# Altium schematic symbol library Dispaly.SchLib: 4 symbols
Pins are listed as number, name and electrical type; pins without a type are passive.

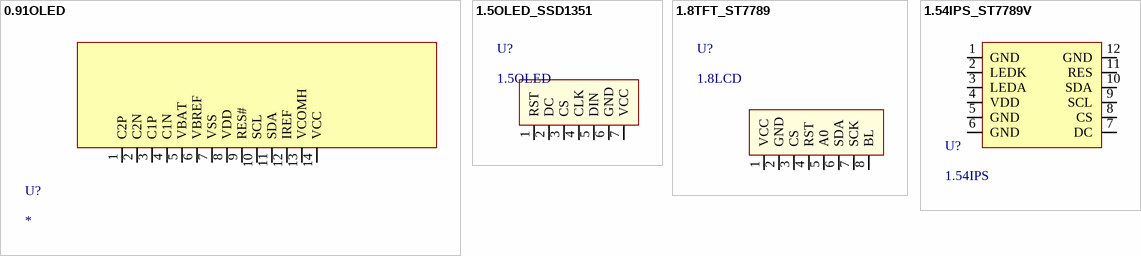
[diagram p0: symbols 0.91OLED to 1.54IPS_ST7789V]

## 0.91OLED
designator U?
footprint 0.91OLED_SSD1306_SMD
pins: 1 C2P, 2 C2N, 3 C1P, 4 C1N, 5 VBAT, 6 VBREF, 7 VSS, 8 VDD, 9 RES#, 10 SCL, 11 SDA, 12 IREF, 13 VCOMH, 14 VCC

## 1.5OLED_SSD1351
designator U?, comment 1.5OLED
footprint 1.5OLED_SSD1351_TH
pins: 1 RST, 2 DC, 3 CS, 4 CLK, 5 DIN, 6 GND, 7 VCC

## 1.8TFT_ST7789
designator U?, comment 1.8LCD
footprint 1.8TFT_ST7789_TH
pins: 1 VCC, 2 GND, 3 CS, 4 RST, 5 A0, 6 SDA, 7 SCK, 8 BL

## 1.54IPS_ST7789V
designator U?, comment 1.54IPS
footprint 1.54IPS_ST7789V_SMD
pins: 1 GND, 2 LEDK, 3 LEDA, 4 VDD, 5 GND, 6 GND, 7 DC, 8 CS, 9 SCL, 10 SDA, 11 RES, 12 GND